# Altium footprint library hardware-luminox_to_sdi12_interface.PcbLib: 6 footprints
Each footprint in its own frame and in the unit in brackets; x right, y up, seen from the top. Pads: shape width x height; smd on the part's side, far side on the other; paste and mask are expansions set on the pad; w line width, h text height; cw(c..) or ccw(c..) is an arc to the next point about the centre after c.
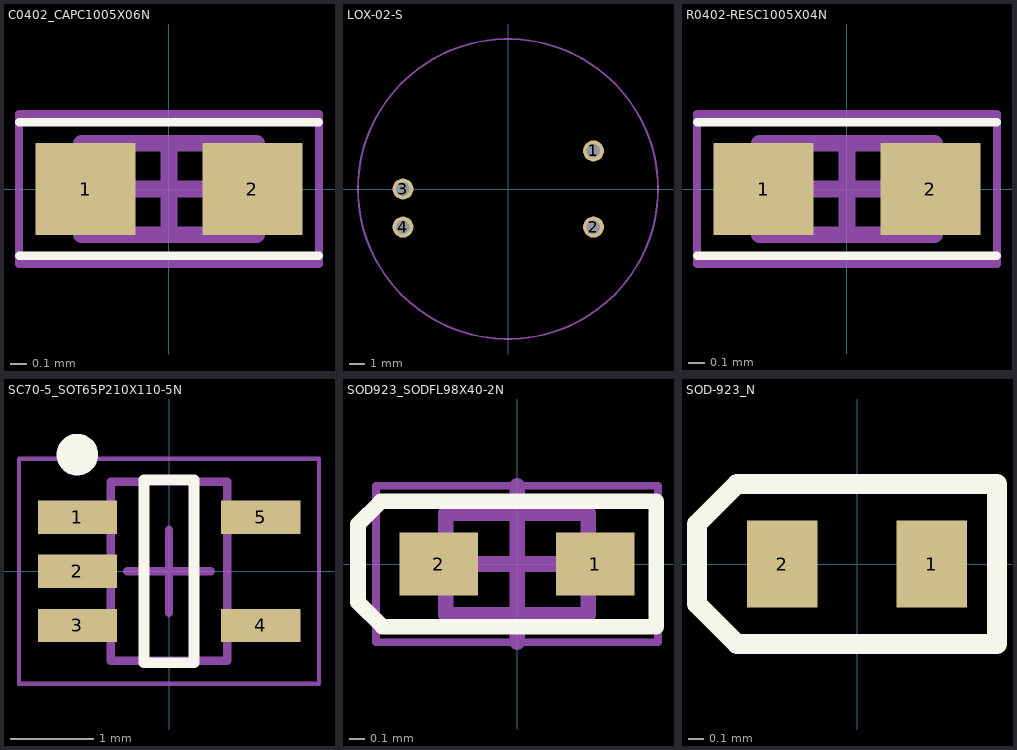
[diagram p0: the footprints below, top view; thin cyan lines are the x and y axes]

## C0402_CAPC1005X06N [mm] "Chip Capacitor 0402 (Metric 1005), 2-Leads, Body 1.00x0.50mm, IPC Medium Density"
height 0.55
pads (2):
  rect 0.6x0.55 smd: 1(-0.5,0) 2(0.5,0)
Top Overlay:
  lines w0.05: -0.9,-0.4 0.9,-0.4 ; -0.9,0.4 0.9,0.4
Mechanical 13:
  lines w0.1: -0.525,-0.275 -0.525,0.275 0.525,0.275 0.525,-0.275 -0.525,-0.275
Courtyard (Mech15):
  lines w0.05: -0.9,-0.45 0.9,-0.45 0.9,0.45 -0.9,0.45 -0.9,-0.45
  lines w0.1: -0.275,0 0.275,0 ; 0,-0.275 0,0.275
3D body "C0402_CAPC1005X06N.step": height 0.55, standoff 0, extent -0.525,-0.275 0.525,0.275

## LOX-02-S [mm] "LuminOX Oxygen Serial (UART) Sonsor Footprint"
height 12.5
pads (4):
  round 1.4 hole 0.9 paste+0: 1(5.7,2.54) 2(5.7,-2.54) 3(-7,0) 4(-7,-2.54)
Courtyard (Mech15):
  circle w0.127: c0,0 r10
3D body "LOX-02-S.step": height 14.05, standoff -5.68, extent -9.952,-9.952 9.952,9.952

## R0402-RESC1005X04N [mm] "Chip Resistor 0402 (Metric 1005), 2-Leads, Body 1.00x0.50mm, IPC Medium Density"
height 0.4
pads (2):
  rect 0.6x0.55 smd: 1(-0.5,0) 2(0.5,0)
Top Overlay:
  lines w0.05: -0.9,-0.4 0.9,-0.4 ; -0.9,0.4 0.9,0.4
Mechanical 13:
  lines w0.1: -0.525,-0.275 0.525,-0.275 0.525,0.275 -0.525,0.275 -0.525,-0.275
Courtyard (Mech15):
  lines w0.05: -0.9,-0.45 0.9,-0.45 0.9,0.45 -0.9,0.45 -0.9,-0.45
  lines w0.1: -0.275,0 0.275,0 ; 0,-0.275 0,0.275
3D body "R0402-RESC1005X04N.step": height 0.4, standoff 0, extent -0.525,-0.275 0.525,0.275

## SC70-5_SOT65P210X110-5N [mm] "SC70-5, 5-Leads, Body 2.00x2.10mm, Pitch 0.65mm, IPC Medium Density"
height 1.1
pads (5):
  rect 0.95x0.4 smd: 1(-1.1,0.65) 2(-1.1,0) 3(-1.1,-0.65) 4(1.1,-0.65) 5(1.1,0.65)
Top Overlay:
  circle w0.25: c-1.1,1.4 r0.125
  lines w0.127: -0.3,-1.1 -0.3,1.1 0.3,1.1 0.3,-1.1 -0.3,-1.1
Mechanical 13:
  lines w0.1: -0.7,-1.075 0.7,-1.075 0.7,1.075 -0.7,1.075 -0.7,-1.075
Courtyard (Mech15):
  lines w0.05: -1.8,-1.35 1.8,-1.35 1.8,1.35 -1.8,1.35 -1.8,-1.35
  lines w0.1: -0.5,0 0.5,0 ; 0,-0.5 0,0.5
3D body "SC70-5_SOT65P210X110-5N.step": height 1.1, standoff 0, extent -1.2,-1.075 1.2,1.075

## SOD923_SODFL98X40-2N [mm] "SODFL, 2-Leads, Body 0.60x0.98mm, IPC Medium Density"
height 0.4
pads (2):
  rect 0.5x0.4 smd: 1(0.5,0) 2(-0.5,0)
Top Overlay:
  lines w0.1: -1.016,-0.244 -0.86,-0.4 0.889,-0.4 0.889,0.4 -0.87,0.4 -1.016,0.254 -1.016,-0.244
Mechanical 13:
  lines w0.1: -0.455,-0.325 -0.455,0.325 0.455,0.325 0.455,-0.325 -0.455,-0.325
Courtyard (Mech15):
  lines w0.05: -0.9,-0.5 -0.9,0.5 0.9,0.5 0.9,-0.5 -0.9,-0.5
  lines w0.1: -0.5,0 0.5,0 ; 0,-0.5 0,0.5
3D body "SOD923_SODFL98X40-2N.step": height 0.4, standoff 0, extent -0.487,-0.325 0.487,0.325

## SOD-923_N [mm] "Small Outline Diode, Body 1.0 x 0.6 mm, Medium Density"
height 0.4
pads (2):
  rect 0.45x0.55 smd paste+0: 1(0.475,0) 2(-0.475,0)
Top Overlay:
  lines w0.127: -1.016,-0.254 -0.762,-0.508 0.889,-0.508 0.889,0.508 -0.762,0.508 -1.016,0.254 -1.016,0.127 -1.016,-0.254